# Altium integrated library Linear Technology Charge_Pump.IntLib: 599 symbols (part 9 of 29)
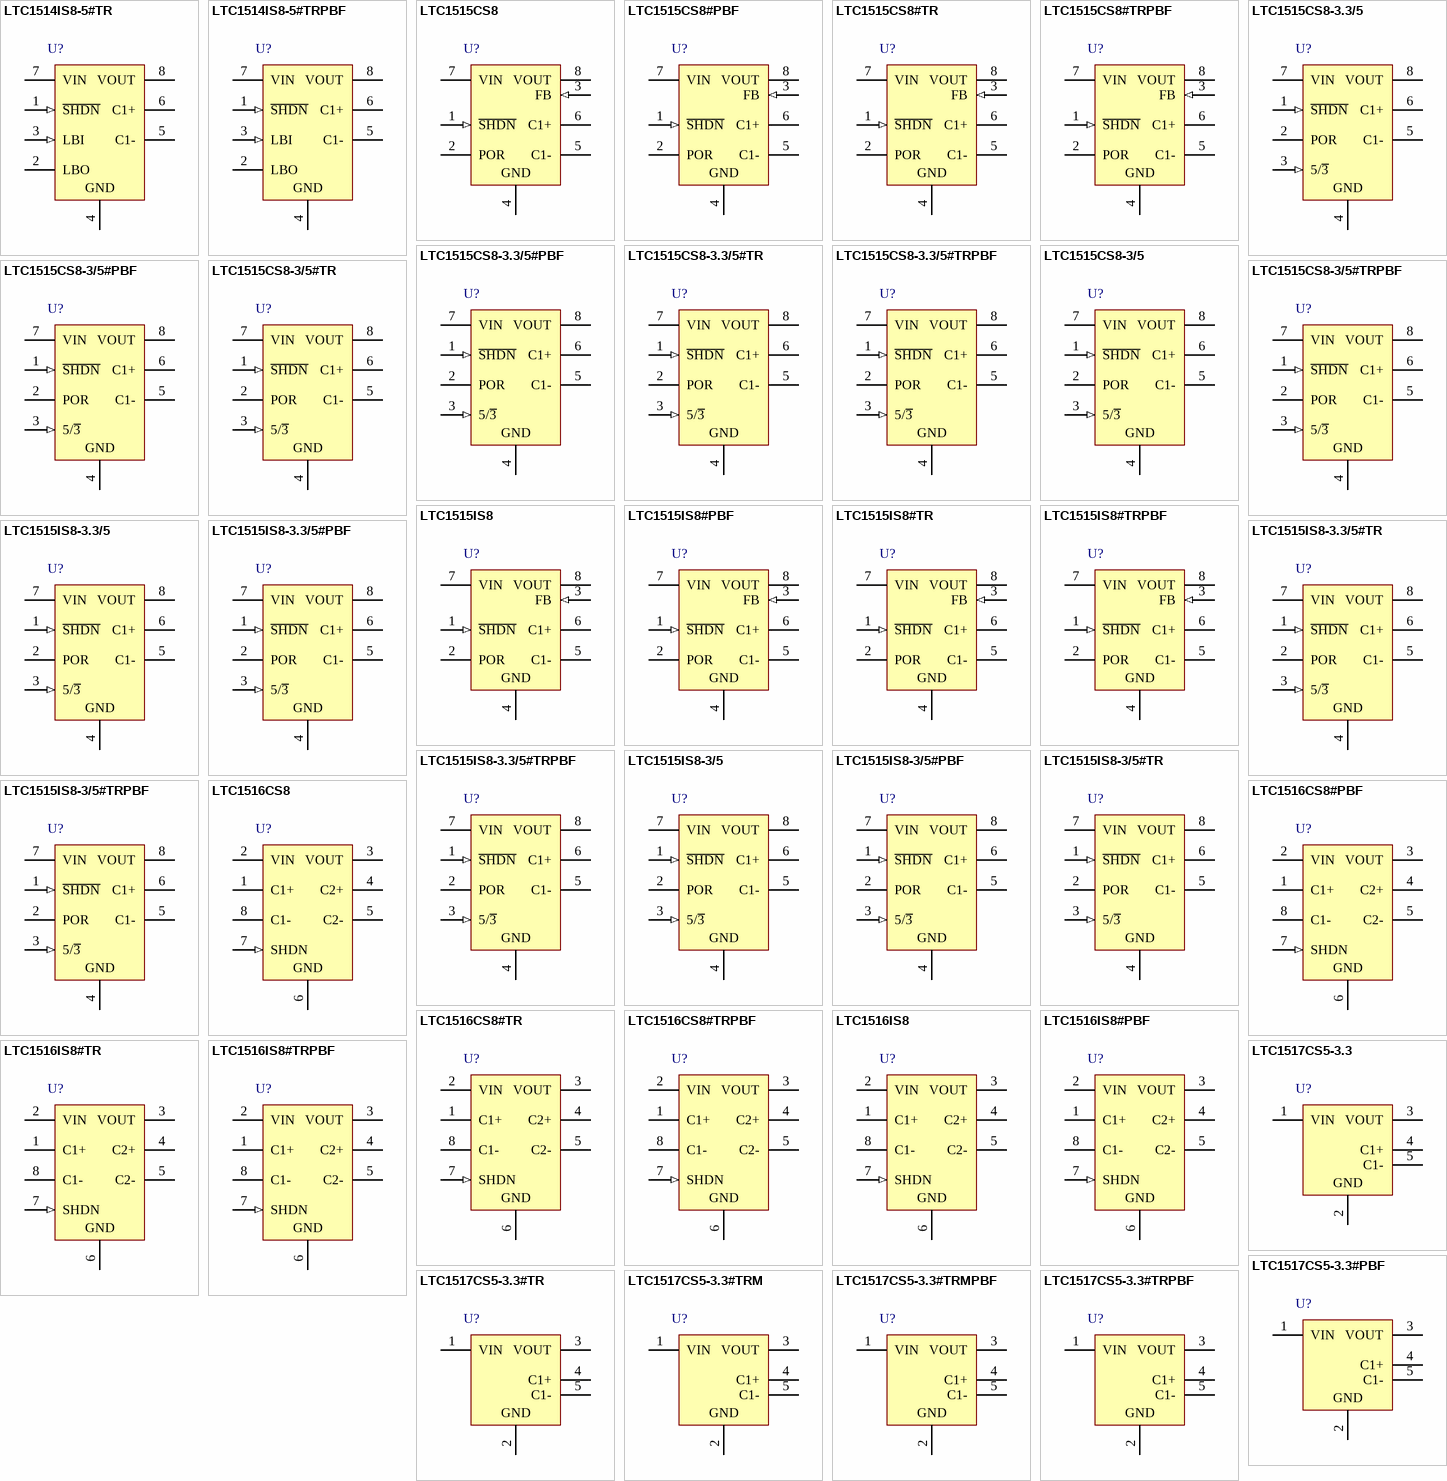
[diagram p24: symbols LTC1514IS8-5#TR to LTC1517CS5-3.3#TRPBF]

## LTC1515CS8-3/5
designator U?
Step-Up / Step-Down Switched Capacitor DC/DC Converter with Reset, 2 to 8 / 2.7 to 10 V Vin, 3 / 5 V Vout, 8-pin SOIC (S8-8), 0 to 70 degC; Manufacturer: Linear Technology; PartNumber: LTC1515CS8-3/5; Frequency(kHz): 650; Ishutdown(uA): 1; Isupply(mA): 0.06; Max Iout(mA): 50; Vin Max(V): 8, 10; Vin Min(V): 2, 2.7; Voutput: 3V, 5V; PackageVersion: Rev. G, 03/2012; PackageReference: S8-8; PackageDescription: 8-Pin Plastic Small Outline (Narrow .150 Inch), Body 4.9 x 3.9 mm, Pitch 1.27 mm; Supplier 1: Digi-Key; Supplier Part Number 1: LTC1515CS8-3/5-ND; RoHS: FALSE; Mounting Technology: Surface Mount; ComponentLink1Description: Manufacturer URL; ComponentLink1URL: http://www.linear.com/; ComponentLink2Description: Datasheet; ComponentLink2URL: http://cds.linear.com/docs/en/datasheet/1515sf.pdf; ComponentLink3Description: Package Specification; ComponentLink3URL: http://cds.linear.com/docs/en/packaging/05081610_G_SO8.pdf
footprint LT-S8-8_N (SOIC, 8-Leads, Body 5x4mm, Pitch 1.27mm, IPC Medium Density)
footprint LT-S8-8_L (SOIC, 8-Leads, Body 5x4mm, Pitch 1.27mm, IPC High Density)
footprint LT-S8-8_M (SOIC, 8-Leads, Body 5x4mm, Pitch 1.27mm, IPC Low Density)
pins: 1 ~{SHDN} (in) "Shutdown Input. A logic low on the S\H\D\N\ pin puts the part into shutdown mode. A logic high (VS\H\D\N\ >= 1.6V) enables the charge pump regulator. At high VIN voltages, the S\H\D\N\ pin may still be controlled with 3V (See Datasheet)", 2 POR (oc) "Open-Drain Power-On Reset Output. This pin will pull low upon initial power-up, during shutdown or until VOUT has been within 6.5% of its regulated value for more than 200ms typ.", 3 5/~{3} (in) "Output Voltage Select. A logic high on the 5/3\ pin will force VOUT to regulate to 5V. A logic low will force VOUT to 3V (LTC1515-3/5) or 3.3V (LTC1515- 3.3/5). As with the S\H\D\N\ pin, the 5/3\ pin may be driven with 3V (See Datasheet)", 4 GND (power) "Ground. Should be tied to a ground plane for best performance.", 5 C1- "Charge Pump Flying Capacitor, Negative Terminal.", 6 C1+ "Charge Pump Flying Capacitor, Positive Terminal.", 7 VIN (power) "Charge Pump Input Voltage. May be between 2V and 10V. VIN should be bypassed with a >=10uF low ESR capacitor as close as possible to the pin for best performance.", 8 VOUT (power) "Regulated Output Voltage. The output voltage is internally set to either 3V/5V, 3.3V/5V or adjustable using an external resistor divider (LTC1515). VOUT should be bypassed with a >= 10uF low ESR capacitor as close as (See Datasheet)"

## LTC1515CS8-3/5#PBF
designator U?
Step-Up / Step-Down Switched Capacitor DC/DC Converter with Reset, 2 to 8 / 2.7 to 10 V Vin, 3 / 5 V Vout, 8-pin SOIC (S8-8), 0 to 70 degC, Pb-Free; Manufacturer: Linear Technology; PartNumber: LTC1515CS8-3/5#PBF; Frequency(kHz): 650; Ishutdown(uA): 1; Isupply(mA): 0.06; Max Iout(mA): 50; Vin Max(V): 8, 10; Vin Min(V): 2, 2.7; Voutput: 3V, 5V; PackageVersion: Rev. G, 03/2012; PackageReference: S8-8; PackageDescription: 8-Pin Plastic Small Outline (Narrow .150 Inch), Body 4.9 x 3.9 mm, Pitch 1.27 mm; Supplier 1: Digi-Key; Supplier Part Number 1: LTC1515CS8-3/5#PBF-ND; RoHS: TRUE; Mounting Technology: Surface Mount; ComponentLink1Description: Manufacturer URL; ComponentLink1URL: http://www.linear.com/; ComponentLink2Description: Datasheet; ComponentLink2URL: http://cds.linear.com/docs/en/datasheet/1515sf.pdf; ComponentLink3Description: Package Specification; ComponentLink3URL: http://cds.linear.com/docs/en/packaging/05081610_G_SO8.pdf
footprint LT-S8-8_N (SOIC, 8-Leads, Body 5x4mm, Pitch 1.27mm, IPC Medium Density)
footprint LT-S8-8_L (SOIC, 8-Leads, Body 5x4mm, Pitch 1.27mm, IPC High Density)
footprint LT-S8-8_M (SOIC, 8-Leads, Body 5x4mm, Pitch 1.27mm, IPC Low Density)
pins: 1 ~{SHDN} (in) "Shutdown Input. A logic low on the S\H\D\N\ pin puts the part into shutdown mode. A logic high (VS\H\D\N\ >= 1.6V) enables the charge pump regulator. At high VIN voltages, the S\H\D\N\ pin may still be controlled with 3V (See Datasheet)", 2 POR (oc) "Open-Drain Power-On Reset Output. This pin will pull low upon initial power-up, during shutdown or until VOUT has been within 6.5% of its regulated value for more than 200ms typ.", 3 5/~{3} (in) "Output Voltage Select. A logic high on the 5/3\ pin will force VOUT to regulate to 5V. A logic low will force VOUT to 3V (LTC1515-3/5) or 3.3V (LTC1515- 3.3/5). As with the S\H\D\N\ pin, the 5/3\ pin may be driven with 3V (See Datasheet)", 4 GND (power) "Ground. Should be tied to a ground plane for best performance.", 5 C1- "Charge Pump Flying Capacitor, Negative Terminal.", 6 C1+ "Charge Pump Flying Capacitor, Positive Terminal.", 7 VIN (power) "Charge Pump Input Voltage. May be between 2V and 10V. VIN should be bypassed with a >=10uF low ESR capacitor as close as possible to the pin for best performance.", 8 VOUT (power) "Regulated Output Voltage. The output voltage is internally set to either 3V/5V, 3.3V/5V or adjustable using an external resistor divider (LTC1515). VOUT should be bypassed with a >= 10uF low ESR capacitor as close as (See Datasheet)"

## LTC1515CS8-3/5#TR
designator U?
Step-Up / Step-Down Switched Capacitor DC/DC Converter with Reset, 2 to 8 / 2.7 to 10 V Vin, 3 / 5 V Vout, 8-pin SOIC (S8-8), 0 to 70 degC, Tape and Reel; Manufacturer: Linear Technology; PartNumber: LTC1515CS8-3/5#TR; Frequency(kHz): 650; Ishutdown(uA): 1; Isupply(mA): 0.06; Max Iout(mA): 50; Vin Max(V): 8, 10; Vin Min(V): 2, 2.7; Voutput: 3V, 5V; PackageVersion: Rev. G, 03/2012; PackageReference: S8-8; PackageDescription: 8-Pin Plastic Small Outline (Narrow .150 Inch), Body 4.9 x 3.9 mm, Pitch 1.27 mm; Supplier 1: Digi-Key; Supplier Part Number 1: LTC1515CS8-3/5#TR-ND; Packing: Tape and Reel; RoHS: FALSE; Mounting Technology: Surface Mount; ComponentLink1Description: Manufacturer URL; ComponentLink1URL: http://www.linear.com/; ComponentLink2Description: Datasheet; ComponentLink2URL: http://cds.linear.com/docs/en/datasheet/1515sf.pdf; ComponentLink3Description: Package Specification; ComponentLink3URL: http://cds.linear.com/docs/en/packaging/05081610_G_SO8.pdf
footprint LT-S8-8_N (SOIC, 8-Leads, Body 5x4mm, Pitch 1.27mm, IPC Medium Density)
footprint LT-S8-8_L (SOIC, 8-Leads, Body 5x4mm, Pitch 1.27mm, IPC High Density)
footprint LT-S8-8_M (SOIC, 8-Leads, Body 5x4mm, Pitch 1.27mm, IPC Low Density)
pins: 1 ~{SHDN} (in) "Shutdown Input. A logic low on the S\H\D\N\ pin puts the part into shutdown mode. A logic high (VS\H\D\N\ >= 1.6V) enables the charge pump regulator. At high VIN voltages, the S\H\D\N\ pin may still be controlled with 3V (See Datasheet)", 2 POR (oc) "Open-Drain Power-On Reset Output. This pin will pull low upon initial power-up, during shutdown or until VOUT has been within 6.5% of its regulated value for more than 200ms typ.", 3 5/~{3} (in) "Output Voltage Select. A logic high on the 5/3\ pin will force VOUT to regulate to 5V. A logic low will force VOUT to 3V (LTC1515-3/5) or 3.3V (LTC1515- 3.3/5). As with the S\H\D\N\ pin, the 5/3\ pin may be driven with 3V (See Datasheet)", 4 GND (power) "Ground. Should be tied to a ground plane for best performance.", 5 C1- "Charge Pump Flying Capacitor, Negative Terminal.", 6 C1+ "Charge Pump Flying Capacitor, Positive Terminal.", 7 VIN (power) "Charge Pump Input Voltage. May be between 2V and 10V. VIN should be bypassed with a >=10uF low ESR capacitor as close as possible to the pin for best performance.", 8 VOUT (power) "Regulated Output Voltage. The output voltage is internally set to either 3V/5V, 3.3V/5V or adjustable using an external resistor divider (LTC1515). VOUT should be bypassed with a >= 10uF low ESR capacitor as close as (See Datasheet)"

## LTC1515CS8-3/5#TRPBF
designator U?
Step-Up / Step-Down Switched Capacitor DC/DC Converter with Reset, 2 to 8 / 2.7 to 10 V Vin, 3 / 5 V Vout, 8-pin SOIC (S8-8), 0 to 70 degC, Pb-Free, Tape and Reel; Manufacturer: Linear Technology; PartNumber: LTC1515CS8-3/5#TRPBF; Frequency(kHz): 650; Ishutdown(uA): 1; Isupply(mA): 0.06; Max Iout(mA): 50; Vin Max(V): 8, 10; Vin Min(V): 2, 2.7; Voutput: 3V, 5V; PackageVersion: Rev. G, 03/2012; PackageReference: S8-8; PackageDescription: 8-Pin Plastic Small Outline (Narrow .150 Inch), Body 4.9 x 3.9 mm, Pitch 1.27 mm; Supplier 1: Digi-Key; Supplier Part Number 1: LTC1515CS8-3/5#TRPBF-ND; Packing: Tape and Reel; RoHS: TRUE; Mounting Technology: Surface Mount; ComponentLink1Description: Manufacturer URL; ComponentLink1URL: http://www.linear.com/; ComponentLink2Description: Datasheet; ComponentLink2URL: http://cds.linear.com/docs/en/datasheet/1515sf.pdf; ComponentLink3Description: Package Specification; ComponentLink3URL: http://cds.linear.com/docs/en/packaging/05081610_G_SO8.pdf
footprint LT-S8-8_N (SOIC, 8-Leads, Body 5x4mm, Pitch 1.27mm, IPC Medium Density)
footprint LT-S8-8_L (SOIC, 8-Leads, Body 5x4mm, Pitch 1.27mm, IPC High Density)
footprint LT-S8-8_M (SOIC, 8-Leads, Body 5x4mm, Pitch 1.27mm, IPC Low Density)
pins: 1 ~{SHDN} (in) "Shutdown Input. A logic low on the S\H\D\N\ pin puts the part into shutdown mode. A logic high (VS\H\D\N\ >= 1.6V) enables the charge pump regulator. At high VIN voltages, the S\H\D\N\ pin may still be controlled with 3V (See Datasheet)", 2 POR (oc) "Open-Drain Power-On Reset Output. This pin will pull low upon initial power-up, during shutdown or until VOUT has been within 6.5% of its regulated value for more than 200ms typ.", 3 5/~{3} (in) "Output Voltage Select. A logic high on the 5/3\ pin will force VOUT to regulate to 5V. A logic low will force VOUT to 3V (LTC1515-3/5) or 3.3V (LTC1515- 3.3/5). As with the S\H\D\N\ pin, the 5/3\ pin may be driven with 3V (See Datasheet)", 4 GND (power) "Ground. Should be tied to a ground plane for best performance.", 5 C1- "Charge Pump Flying Capacitor, Negative Terminal.", 6 C1+ "Charge Pump Flying Capacitor, Positive Terminal.", 7 VIN (power) "Charge Pump Input Voltage. May be between 2V and 10V. VIN should be bypassed with a >=10uF low ESR capacitor as close as possible to the pin for best performance.", 8 VOUT (power) "Regulated Output Voltage. The output voltage is internally set to either 3V/5V, 3.3V/5V or adjustable using an external resistor divider (LTC1515). VOUT should be bypassed with a >= 10uF low ESR capacitor as close as (See Datasheet)"

## LTC1515IS8
designator U?
Step-Up / Step-Down Switched Capacitor DC/DC Converter with Reset, 2 to 10 V Vin, Adjustable Vout, 8-pin SOIC (S8-8), -40 to 85 degC; Manufacturer: Linear Technology; PartNumber: LTC1515IS8; Frequency(kHz): 650; Ishutdown(uA): 1; Isupply(mA): 0.06; Max Iout(mA): 50; Vin Max(V): 10; Vin Min(V): 2; Voutput: Adj; PackageVersion: Rev. G, 03/2012; PackageReference: S8-8; PackageDescription: 8-Pin Plastic Small Outline (Narrow .150 Inch), Body 4.9 x 3.9 mm, Pitch 1.27 mm; Supplier 1: Digi-Key; Supplier Part Number 1: LTC1515IS8-ND; RoHS: FALSE; Mounting Technology: Surface Mount; ComponentLink1Description: Manufacturer URL; ComponentLink1URL: http://www.linear.com/; ComponentLink2Description: Datasheet; ComponentLink2URL: http://cds.linear.com/docs/en/datasheet/1515sf.pdf; ComponentLink3Description: Package Specification; ComponentLink3URL: http://cds.linear.com/docs/en/packaging/05081610_G_SO8.pdf
footprint LT-S8-8_N (SOIC, 8-Leads, Body 5x4mm, Pitch 1.27mm, IPC Medium Density)
footprint LT-S8-8_L (SOIC, 8-Leads, Body 5x4mm, Pitch 1.27mm, IPC High Density)
footprint LT-S8-8_M (SOIC, 8-Leads, Body 5x4mm, Pitch 1.27mm, IPC Low Density)
pins: 1 ~{SHDN} (in) "Shutdown Input. A logic low on the S\H\D\N\ pin puts the part into shutdown mode. A logic high (VS\H\D\N\ >= 1.6V) enables the charge pump regulator. At high VIN voltages, the S\H\D\N\ pin may still be controlled with 3V (See Datasheet)", 2 POR (oc) "Open-Drain Power-On Reset Output. This pin will pull low upon initial power-up, during shutdown or until VOUT has been within 6.5% of its regulated value for more than 200ms typ.", 3 FB (in) "Feedback Input. The voltage on this pin is compared to the internal reference voltage (1.232V) to keep the output in regulation. An external resistor divider is required between VOUT and FB to adjust the output voltage. (See Datasheet)", 4 GND (power) "Ground. Should be tied to a ground plane for best performance.", 5 C1- "Charge Pump Flying Capacitor, Negative Terminal.", 6 C1+ "Charge Pump Flying Capacitor, Positive Terminal.", 7 VIN (power) "Charge Pump Input Voltage. May be between 2V and 10V. VIN should be bypassed with a >=10uF low ESR capacitor as close as possible to the pin for best performance.", 8 VOUT (power) "Regulated Output Voltage. The output voltage is internally set to either 3V/5V, 3.3V/5V or adjustable using an external resistor divider (LTC1515). VOUT should be bypassed with a >= 10uF low ESR capacitor as close as (See Datasheet)"

## LTC1515IS8#PBF
designator U?
Step-Up / Step-Down Switched Capacitor DC/DC Converter with Reset, 2 to 10 V Vin, Adjustable Vout, 8-pin SOIC (S8-8), -40 to 85 degC, Pb-Free; Manufacturer: Linear Technology; PartNumber: LTC1515IS8#PBF; Frequency(kHz): 650; Ishutdown(uA): 1; Isupply(mA): 0.06; Max Iout(mA): 50; Vin Max(V): 10; Vin Min(V): 2; Voutput: Adj; PackageVersion: Rev. G, 03/2012; PackageReference: S8-8; PackageDescription: 8-Pin Plastic Small Outline (Narrow .150 Inch), Body 4.9 x 3.9 mm, Pitch 1.27 mm; Supplier 1: Digi-Key; Supplier Part Number 1: LTC1515IS8#PBF-ND; RoHS: TRUE; Mounting Technology: Surface Mount; ComponentLink1Description: Manufacturer URL; ComponentLink1URL: http://www.linear.com/; ComponentLink2Description: Datasheet; ComponentLink2URL: http://cds.linear.com/docs/en/datasheet/1515sf.pdf; ComponentLink3Description: Package Specification; ComponentLink3URL: http://cds.linear.com/docs/en/packaging/05081610_G_SO8.pdf
footprint LT-S8-8_N (SOIC, 8-Leads, Body 5x4mm, Pitch 1.27mm, IPC Medium Density)
footprint LT-S8-8_L (SOIC, 8-Leads, Body 5x4mm, Pitch 1.27mm, IPC High Density)
footprint LT-S8-8_M (SOIC, 8-Leads, Body 5x4mm, Pitch 1.27mm, IPC Low Density)
pins: 1 ~{SHDN} (in) "Shutdown Input. A logic low on the S\H\D\N\ pin puts the part into shutdown mode. A logic high (VS\H\D\N\ >= 1.6V) enables the charge pump regulator. At high VIN voltages, the S\H\D\N\ pin may still be controlled with 3V (See Datasheet)", 2 POR (oc) "Open-Drain Power-On Reset Output. This pin will pull low upon initial power-up, during shutdown or until VOUT has been within 6.5% of its regulated value for more than 200ms typ.", 3 FB (in) "Feedback Input. The voltage on this pin is compared to the internal reference voltage (1.232V) to keep the output in regulation. An external resistor divider is required between VOUT and FB to adjust the output voltage. (See Datasheet)", 4 GND (power) "Ground. Should be tied to a ground plane for best performance.", 5 C1- "Charge Pump Flying Capacitor, Negative Terminal.", 6 C1+ "Charge Pump Flying Capacitor, Positive Terminal.", 7 VIN (power) "Charge Pump Input Voltage. May be between 2V and 10V. VIN should be bypassed with a >=10uF low ESR capacitor as close as possible to the pin for best performance.", 8 VOUT (power) "Regulated Output Voltage. The output voltage is internally set to either 3V/5V, 3.3V/5V or adjustable using an external resistor divider (LTC1515). VOUT should be bypassed with a >= 10uF low ESR capacitor as close as (See Datasheet)"

## LTC1515IS8#TR
designator U?
Step-Up / Step-Down Switched Capacitor DC/DC Converter with Reset, 2 to 10 V Vin, Adjustable Vout, 8-pin SOIC (S8-8), -40 to 85 degC, Tape and Reel; Manufacturer: Linear Technology; PartNumber: LTC1515IS8#TR; Frequency(kHz): 650; Ishutdown(uA): 1; Isupply(mA): 0.06; Max Iout(mA): 50; Vin Max(V): 10; Vin Min(V): 2; Voutput: Adj; PackageVersion: Rev. G, 03/2012; PackageReference: S8-8; PackageDescription: 8-Pin Plastic Small Outline (Narrow .150 Inch), Body 4.9 x 3.9 mm, Pitch 1.27 mm; Supplier 1: Digi-Key; Supplier Part Number 1: LTC1515IS8#TR-ND; Packing: Tape and Reel; RoHS: FALSE; Mounting Technology: Surface Mount; ComponentLink1Description: Manufacturer URL; ComponentLink1URL: http://www.linear.com/; ComponentLink2Description: Datasheet; ComponentLink2URL: http://cds.linear.com/docs/en/datasheet/1515sf.pdf; ComponentLink3Description: Package Specification; ComponentLink3URL: http://cds.linear.com/docs/en/packaging/05081610_G_SO8.pdf
footprint LT-S8-8_N (SOIC, 8-Leads, Body 5x4mm, Pitch 1.27mm, IPC Medium Density)
footprint LT-S8-8_L (SOIC, 8-Leads, Body 5x4mm, Pitch 1.27mm, IPC High Density)
footprint LT-S8-8_M (SOIC, 8-Leads, Body 5x4mm, Pitch 1.27mm, IPC Low Density)
pins: 1 ~{SHDN} (in) "Shutdown Input. A logic low on the S\H\D\N\ pin puts the part into shutdown mode. A logic high (VS\H\D\N\ >= 1.6V) enables the charge pump regulator. At high VIN voltages, the S\H\D\N\ pin may still be controlled with 3V (See Datasheet)", 2 POR (oc) "Open-Drain Power-On Reset Output. This pin will pull low upon initial power-up, during shutdown or until VOUT has been within 6.5% of its regulated value for more than 200ms typ.", 3 FB (in) "Feedback Input. The voltage on this pin is compared to the internal reference voltage (1.232V) to keep the output in regulation. An external resistor divider is required between VOUT and FB to adjust the output voltage. (See Datasheet)", 4 GND (power) "Ground. Should be tied to a ground plane for best performance.", 5 C1- "Charge Pump Flying Capacitor, Negative Terminal.", 6 C1+ "Charge Pump Flying Capacitor, Positive Terminal.", 7 VIN (power) "Charge Pump Input Voltage. May be between 2V and 10V. VIN should be bypassed with a >=10uF low ESR capacitor as close as possible to the pin for best performance.", 8 VOUT (power) "Regulated Output Voltage. The output voltage is internally set to either 3V/5V, 3.3V/5V or adjustable using an external resistor divider (LTC1515). VOUT should be bypassed with a >= 10uF low ESR capacitor as close as (See Datasheet)"

## LTC1515IS8#TRPBF
designator U?
Step-Up / Step-Down Switched Capacitor DC/DC Converter with Reset, 2 to 10 V Vin, Adjustable Vout, 8-pin SOIC (S8-8), -40 to 85 degC, Pb-Free, Tape and Reel; Manufacturer: Linear Technology; PartNumber: LTC1515IS8#TRPBF; Frequency(kHz): 650; Ishutdown(uA): 1; Isupply(mA): 0.06; Max Iout(mA): 50; Vin Max(V): 10; Vin Min(V): 2; Voutput: Adj; PackageVersion: Rev. G, 03/2012; PackageReference: S8-8; PackageDescription: 8-Pin Plastic Small Outline (Narrow .150 Inch), Body 4.9 x 3.9 mm, Pitch 1.27 mm; Supplier 1: Digi-Key; Supplier Part Number 1: LTC1515IS8#TRPBF-ND; Packing: Tape and Reel; RoHS: TRUE; Mounting Technology: Surface Mount; ComponentLink1Description: Manufacturer URL; ComponentLink1URL: http://www.linear.com/; ComponentLink2Description: Datasheet; ComponentLink2URL: http://cds.linear.com/docs/en/datasheet/1515sf.pdf; ComponentLink3Description: Package Specification; ComponentLink3URL: http://cds.linear.com/docs/en/packaging/05081610_G_SO8.pdf
footprint LT-S8-8_N (SOIC, 8-Leads, Body 5x4mm, Pitch 1.27mm, IPC Medium Density)
footprint LT-S8-8_L (SOIC, 8-Leads, Body 5x4mm, Pitch 1.27mm, IPC High Density)
footprint LT-S8-8_M (SOIC, 8-Leads, Body 5x4mm, Pitch 1.27mm, IPC Low Density)
pins: 1 ~{SHDN} (in) "Shutdown Input. A logic low on the S\H\D\N\ pin puts the part into shutdown mode. A logic high (VS\H\D\N\ >= 1.6V) enables the charge pump regulator. At high VIN voltages, the S\H\D\N\ pin may still be controlled with 3V (See Datasheet)", 2 POR (oc) "Open-Drain Power-On Reset Output. This pin will pull low upon initial power-up, during shutdown or until VOUT has been within 6.5% of its regulated value for more than 200ms typ.", 3 FB (in) "Feedback Input. The voltage on this pin is compared to the internal reference voltage (1.232V) to keep the output in regulation. An external resistor divider is required between VOUT and FB to adjust the output voltage. (See Datasheet)", 4 GND (power) "Ground. Should be tied to a ground plane for best performance.", 5 C1- "Charge Pump Flying Capacitor, Negative Terminal.", 6 C1+ "Charge Pump Flying Capacitor, Positive Terminal.", 7 VIN (power) "Charge Pump Input Voltage. May be between 2V and 10V. VIN should be bypassed with a >=10uF low ESR capacitor as close as possible to the pin for best performance.", 8 VOUT (power) "Regulated Output Voltage. The output voltage is internally set to either 3V/5V, 3.3V/5V or adjustable using an external resistor divider (LTC1515). VOUT should be bypassed with a >= 10uF low ESR capacitor as close as (See Datasheet)"

## LTC1515IS8-3.3/5
designator U?
Step-Up / Step-Down Switched Capacitor DC/DC Converter with Reset, 2 to 8 / 2.7 to 10 V Vin, 3.3 / 5 V Vout, 8-pin SOIC (S8-8), -40 to 85 degC; Manufacturer: Linear Technology; PartNumber: LTC1515IS8-3.3/5; Frequency(kHz): 650; Ishutdown(uA): 1; Isupply(mA): 0.06; Max Iout(mA): 50; Vin Max(V): 8, 10; Vin Min(V): 2, 2.7; Voutput: 3.3V, 5V; PackageVersion: Rev. G, 03/2012; PackageReference: S8-8; PackageDescription: 8-Pin Plastic Small Outline (Narrow .150 Inch), Body 4.9 x 3.9 mm, Pitch 1.27 mm; Supplier 1: Digi-Key; Supplier Part Number 1: LTC1515IS8-3.3/5-ND; RoHS: FALSE; Mounting Technology: Surface Mount; ComponentLink1Description: Manufacturer URL; ComponentLink1URL: http://www.linear.com/; ComponentLink2Description: Datasheet; ComponentLink2URL: http://cds.linear.com/docs/en/datasheet/1515sf.pdf; ComponentLink3Description: Package Specification; ComponentLink3URL: http://cds.linear.com/docs/en/packaging/05081610_G_SO8.pdf
footprint LT-S8-8_N (SOIC, 8-Leads, Body 5x4mm, Pitch 1.27mm, IPC Medium Density)
footprint LT-S8-8_L (SOIC, 8-Leads, Body 5x4mm, Pitch 1.27mm, IPC High Density)
footprint LT-S8-8_M (SOIC, 8-Leads, Body 5x4mm, Pitch 1.27mm, IPC Low Density)
pins: 1 ~{SHDN} (in) "Shutdown Input. A logic low on the S\H\D\N\ pin puts the part into shutdown mode. A logic high (VS\H\D\N\ >= 1.6V) enables the charge pump regulator. At high VIN voltages, the S\H\D\N\ pin may still be controlled with 3V (See Datasheet)", 2 POR (oc) "Open-Drain Power-On Reset Output. This pin will pull low upon initial power-up, during shutdown or until VOUT has been within 6.5% of its regulated value for more than 200ms typ.", 3 5/~{3} (in) "Output Voltage Select. A logic high on the 5/3\ pin will force VOUT to regulate to 5V. A logic low will force VOUT to 3V (LTC1515-3/5) or 3.3V (LTC1515- 3.3/5). As with the S\H\D\N\ pin, the 5/3\ pin may be driven with 3V (See Datasheet)", 4 GND (power) "Ground. Should be tied to a ground plane for best performance.", 5 C1- "Charge Pump Flying Capacitor, Negative Terminal.", 6 C1+ "Charge Pump Flying Capacitor, Positive Terminal.", 7 VIN (power) "Charge Pump Input Voltage. May be between 2V and 10V. VIN should be bypassed with a >=10uF low ESR capacitor as close as possible to the pin for best performance.", 8 VOUT (power) "Regulated Output Voltage. The output voltage is internally set to either 3V/5V, 3.3V/5V or adjustable using an external resistor divider (LTC1515). VOUT should be bypassed with a >= 10uF low ESR capacitor as close as (See Datasheet)"

## LTC1515IS8-3.3/5#PBF
designator U?
Step-Up / Step-Down Switched Capacitor DC/DC Converter with Reset, 2 to 8 / 2.7 to 10 V Vin, 3.3 / 5 V Vout, 8-pin SOIC (S8-8), -40 to 85 degC, Pb-Free; Manufacturer: Linear Technology; PartNumber: LTC1515IS8-3.3/5#PBF; Frequency(kHz): 650; Ishutdown(uA): 1; Isupply(mA): 0.06; Max Iout(mA): 50; Vin Max(V): 8, 10; Vin Min(V): 2, 2.7; Voutput: 3.3V, 5V; PackageVersion: Rev. G, 03/2012; PackageReference: S8-8; PackageDescription: 8-Pin Plastic Small Outline (Narrow .150 Inch), Body 4.9 x 3.9 mm, Pitch 1.27 mm; Supplier 1: Digi-Key; Supplier Part Number 1: LTC1515IS8-3.3/5#PBF-ND; Supplier 2: Newark; Supplier Part Number 2: 56M1726; RoHS: TRUE; Mounting Technology: Surface Mount; ComponentLink1Description: Manufacturer URL; ComponentLink1URL: http://www.linear.com/; ComponentLink2Description: Datasheet; ComponentLink2URL: http://cds.linear.com/docs/en/datasheet/1515sf.pdf; ComponentLink3Description: Package Specification; ComponentLink3URL: http://cds.linear.com/docs/en/packaging/05081610_G_SO8.pdf
footprint LT-S8-8_N (SOIC, 8-Leads, Body 5x4mm, Pitch 1.27mm, IPC Medium Density)
footprint LT-S8-8_L (SOIC, 8-Leads, Body 5x4mm, Pitch 1.27mm, IPC High Density)
footprint LT-S8-8_M (SOIC, 8-Leads, Body 5x4mm, Pitch 1.27mm, IPC Low Density)
pins: 1 ~{SHDN} (in) "Shutdown Input. A logic low on the S\H\D\N\ pin puts the part into shutdown mode. A logic high (VS\H\D\N\ >= 1.6V) enables the charge pump regulator. At high VIN voltages, the S\H\D\N\ pin may still be controlled with 3V (See Datasheet)", 2 POR (oc) "Open-Drain Power-On Reset Output. This pin will pull low upon initial power-up, during shutdown or until VOUT has been within 6.5% of its regulated value for more than 200ms typ.", 3 5/~{3} (in) "Output Voltage Select. A logic high on the 5/3\ pin will force VOUT to regulate to 5V. A logic low will force VOUT to 3V (LTC1515-3/5) or 3.3V (LTC1515- 3.3/5). As with the S\H\D\N\ pin, the 5/3\ pin may be driven with 3V (See Datasheet)", 4 GND (power) "Ground. Should be tied to a ground plane for best performance.", 5 C1- "Charge Pump Flying Capacitor, Negative Terminal.", 6 C1+ "Charge Pump Flying Capacitor, Positive Terminal.", 7 VIN (power) "Charge Pump Input Voltage. May be between 2V and 10V. VIN should be bypassed with a >=10uF low ESR capacitor as close as possible to the pin for best performance.", 8 VOUT (power) "Regulated Output Voltage. The output voltage is internally set to either 3V/5V, 3.3V/5V or adjustable using an external resistor divider (LTC1515). VOUT should be bypassed with a >= 10uF low ESR capacitor as close as (See Datasheet)"

## LTC1515IS8-3.3/5#TR
designator U?
Step-Up / Step-Down Switched Capacitor DC/DC Converter with Reset, 2 to 8 / 2.7 to 10 V Vin, 3.3 / 5 V Vout, 8-pin SOIC (S8-8), -40 to 85 degC, Tape and Reel; Manufacturer: Linear Technology; PartNumber: LTC1515IS8-3.3/5#TR; Frequency(kHz): 650; Ishutdown(uA): 1; Isupply(mA): 0.06; Max Iout(mA): 50; Vin Max(V): 8, 10; Vin Min(V): 2, 2.7; Voutput: 3.3V, 5V; PackageVersion: Rev. G, 03/2012; PackageReference: S8-8; PackageDescription: 8-Pin Plastic Small Outline (Narrow .150 Inch), Body 4.9 x 3.9 mm, Pitch 1.27 mm; Supplier 1: Digi-Key; Supplier Part Number 1: LTC1515IS8-3.35TR-ND; Packing: Tape and Reel; RoHS: FALSE; Mounting Technology: Surface Mount; ComponentLink1Description: Manufacturer URL; ComponentLink1URL: http://www.linear.com/; ComponentLink2Description: Datasheet; ComponentLink2URL: http://cds.linear.com/docs/en/datasheet/1515sf.pdf; ComponentLink3Description: Package Specification; ComponentLink3URL: http://cds.linear.com/docs/en/packaging/05081610_G_SO8.pdf
footprint LT-S8-8_N (SOIC, 8-Leads, Body 5x4mm, Pitch 1.27mm, IPC Medium Density)
footprint LT-S8-8_L (SOIC, 8-Leads, Body 5x4mm, Pitch 1.27mm, IPC High Density)
footprint LT-S8-8_M (SOIC, 8-Leads, Body 5x4mm, Pitch 1.27mm, IPC Low Density)
pins: 1 ~{SHDN} (in) "Shutdown Input. A logic low on the S\H\D\N\ pin puts the part into shutdown mode. A logic high (VS\H\D\N\ >= 1.6V) enables the charge pump regulator. At high VIN voltages, the S\H\D\N\ pin may still be controlled with 3V (See Datasheet)", 2 POR (oc) "Open-Drain Power-On Reset Output. This pin will pull low upon initial power-up, during shutdown or until VOUT has been within 6.5% of its regulated value for more than 200ms typ.", 3 5/~{3} (in) "Output Voltage Select. A logic high on the 5/3\ pin will force VOUT to regulate to 5V. A logic low will force VOUT to 3V (LTC1515-3/5) or 3.3V (LTC1515- 3.3/5). As with the S\H\D\N\ pin, the 5/3\ pin may be driven with 3V (See Datasheet)", 4 GND (power) "Ground. Should be tied to a ground plane for best performance.", 5 C1- "Charge Pump Flying Capacitor, Negative Terminal.", 6 C1+ "Charge Pump Flying Capacitor, Positive Terminal.", 7 VIN (power) "Charge Pump Input Voltage. May be between 2V and 10V. VIN should be bypassed with a >=10uF low ESR capacitor as close as possible to the pin for best performance.", 8 VOUT (power) "Regulated Output Voltage. The output voltage is internally set to either 3V/5V, 3.3V/5V or adjustable using an external resistor divider (LTC1515). VOUT should be bypassed with a >= 10uF low ESR capacitor as close as (See Datasheet)"

## LTC1515IS8-3.3/5#TRPBF
designator U?
Step-Up / Step-Down Switched Capacitor DC/DC Converter with Reset, 2 to 8 / 2.7 to 10 V Vin, 3.3 / 5 V Vout, 8-pin SOIC (S8-8), -40 to 85 degC, Pb-Free, Tape and Reel; Manufacturer: Linear Technology; PartNumber: LTC1515IS8-3.3/5#TRPBF; Frequency(kHz): 650; Ishutdown(uA): 1; Isupply(mA): 0.06; Max Iout(mA): 50; Vin Max(V): 8, 10; Vin Min(V): 2, 2.7; Voutput: 3.3V, 5V; PackageVersion: Rev. G, 03/2012; PackageReference: S8-8; PackageDescription: 8-Pin Plastic Small Outline (Narrow .150 Inch), Body 4.9 x 3.9 mm, Pitch 1.27 mm; Supplier 1: Digi-Key; Supplier Part Number 1: LTC1515IS8-3.3/5#TRPBF-ND; Packing: Tape and Reel; RoHS: TRUE; Mounting Technology: Surface Mount; ComponentLink1Description: Manufacturer URL; ComponentLink1URL: http://www.linear.com/; ComponentLink2Description: Datasheet; ComponentLink2URL: http://cds.linear.com/docs/en/datasheet/1515sf.pdf; ComponentLink3Description: Package Specification; ComponentLink3URL: http://cds.linear.com/docs/en/packaging/05081610_G_SO8.pdf
footprint LT-S8-8_N (SOIC, 8-Leads, Body 5x4mm, Pitch 1.27mm, IPC Medium Density)
footprint LT-S8-8_L (SOIC, 8-Leads, Body 5x4mm, Pitch 1.27mm, IPC High Density)
footprint LT-S8-8_M (SOIC, 8-Leads, Body 5x4mm, Pitch 1.27mm, IPC Low Density)
pins: 1 ~{SHDN} (in) "Shutdown Input. A logic low on the S\H\D\N\ pin puts the part into shutdown mode. A logic high (VS\H\D\N\ >= 1.6V) enables the charge pump regulator. At high VIN voltages, the S\H\D\N\ pin may still be controlled with 3V (See Datasheet)", 2 POR (oc) "Open-Drain Power-On Reset Output. This pin will pull low upon initial power-up, during shutdown or until VOUT has been within 6.5% of its regulated value for more than 200ms typ.", 3 5/~{3} (in) "Output Voltage Select. A logic high on the 5/3\ pin will force VOUT to regulate to 5V. A logic low will force VOUT to 3V (LTC1515-3/5) or 3.3V (LTC1515- 3.3/5). As with the S\H\D\N\ pin, the 5/3\ pin may be driven with 3V (See Datasheet)", 4 GND (power) "Ground. Should be tied to a ground plane for best performance.", 5 C1- "Charge Pump Flying Capacitor, Negative Terminal.", 6 C1+ "Charge Pump Flying Capacitor, Positive Terminal.", 7 VIN (power) "Charge Pump Input Voltage. May be between 2V and 10V. VIN should be bypassed with a >=10uF low ESR capacitor as close as possible to the pin for best performance.", 8 VOUT (power) "Regulated Output Voltage. The output voltage is internally set to either 3V/5V, 3.3V/5V or adjustable using an external resistor divider (LTC1515). VOUT should be bypassed with a >= 10uF low ESR capacitor as close as (See Datasheet)"

## LTC1515IS8-3/5
designator U?
Step-Up / Step-Down Switched Capacitor DC/DC Converter with Reset, 2 to 8 / 2.7 to 10 V Vin, 3 / 5 V Vout, 8-pin SOIC (S8-8), -40 to 85 degC; Manufacturer: Linear Technology; PartNumber: LTC1515IS8-3/5; Frequency(kHz): 650; Ishutdown(uA): 1; Isupply(mA): 0.06; Max Iout(mA): 50; Vin Max(V): 8, 10; Vin Min(V): 2, 2.7; Voutput: 3V, 5V; PackageVersion: Rev. G, 03/2012; PackageReference: S8-8; PackageDescription: 8-Pin Plastic Small Outline (Narrow .150 Inch), Body 4.9 x 3.9 mm, Pitch 1.27 mm; Supplier 1: Digi-Key; Supplier Part Number 1: LTC1515IS8-3/5-ND; RoHS: FALSE; Mounting Technology: Surface Mount; ComponentLink1Description: Manufacturer URL; ComponentLink1URL: http://www.linear.com/; ComponentLink2Description: Datasheet; ComponentLink2URL: http://cds.linear.com/docs/en/datasheet/1515sf.pdf; ComponentLink3Description: Package Specification; ComponentLink3URL: http://cds.linear.com/docs/en/packaging/05081610_G_SO8.pdf
footprint LT-S8-8_N (SOIC, 8-Leads, Body 5x4mm, Pitch 1.27mm, IPC Medium Density)
footprint LT-S8-8_L (SOIC, 8-Leads, Body 5x4mm, Pitch 1.27mm, IPC High Density)
footprint LT-S8-8_M (SOIC, 8-Leads, Body 5x4mm, Pitch 1.27mm, IPC Low Density)
pins: 1 ~{SHDN} (in) "Shutdown Input. A logic low on the S\H\D\N\ pin puts the part into shutdown mode. A logic high (VS\H\D\N\ >= 1.6V) enables the charge pump regulator. At high VIN voltages, the S\H\D\N\ pin may still be controlled with 3V (See Datasheet)", 2 POR (oc) "Open-Drain Power-On Reset Output. This pin will pull low upon initial power-up, during shutdown or until VOUT has been within 6.5% of its regulated value for more than 200ms typ.", 3 5/~{3} (in) "Output Voltage Select. A logic high on the 5/3\ pin will force VOUT to regulate to 5V. A logic low will force VOUT to 3V (LTC1515-3/5) or 3.3V (LTC1515- 3.3/5). As with the S\H\D\N\ pin, the 5/3\ pin may be driven with 3V (See Datasheet)", 4 GND (power) "Ground. Should be tied to a ground plane for best performance.", 5 C1- "Charge Pump Flying Capacitor, Negative Terminal.", 6 C1+ "Charge Pump Flying Capacitor, Positive Terminal.", 7 VIN (power) "Charge Pump Input Voltage. May be between 2V and 10V. VIN should be bypassed with a >=10uF low ESR capacitor as close as possible to the pin for best performance.", 8 VOUT (power) "Regulated Output Voltage. The output voltage is internally set to either 3V/5V, 3.3V/5V or adjustable using an external resistor divider (LTC1515). VOUT should be bypassed with a >= 10uF low ESR capacitor as close as (See Datasheet)"

## LTC1515IS8-3/5#PBF
designator U?
Step-Up / Step-Down Switched Capacitor DC/DC Converter with Reset, 2 to 8 / 2.7 to 10 V Vin, 3 / 5 V Vout, 8-pin SOIC (S8-8), -40 to 85 degC, Pb-Free; Manufacturer: Linear Technology; PartNumber: LTC1515IS8-3/5#PBF; Frequency(kHz): 650; Ishutdown(uA): 1; Isupply(mA): 0.06; Max Iout(mA): 50; Vin Max(V): 8, 10; Vin Min(V): 2, 2.7; Voutput: 3V, 5V; PackageVersion: Rev. G, 03/2012; PackageReference: S8-8; PackageDescription: 8-Pin Plastic Small Outline (Narrow .150 Inch), Body 4.9 x 3.9 mm, Pitch 1.27 mm; Supplier 1: Digi-Key; Supplier Part Number 1: LTC1515IS8-3/5#PBF-ND; RoHS: TRUE; Mounting Technology: Surface Mount; ComponentLink1Description: Manufacturer URL; ComponentLink1URL: http://www.linear.com/; ComponentLink2Description: Datasheet; ComponentLink2URL: http://cds.linear.com/docs/en/datasheet/1515sf.pdf; ComponentLink3Description: Package Specification; ComponentLink3URL: http://cds.linear.com/docs/en/packaging/05081610_G_SO8.pdf
footprint LT-S8-8_N (SOIC, 8-Leads, Body 5x4mm, Pitch 1.27mm, IPC Medium Density)
footprint LT-S8-8_L (SOIC, 8-Leads, Body 5x4mm, Pitch 1.27mm, IPC High Density)
footprint LT-S8-8_M (SOIC, 8-Leads, Body 5x4mm, Pitch 1.27mm, IPC Low Density)
pins: 1 ~{SHDN} (in) "Shutdown Input. A logic low on the S\H\D\N\ pin puts the part into shutdown mode. A logic high (VS\H\D\N\ >= 1.6V) enables the charge pump regulator. At high VIN voltages, the S\H\D\N\ pin may still be controlled with 3V (See Datasheet)", 2 POR (oc) "Open-Drain Power-On Reset Output. This pin will pull low upon initial power-up, during shutdown or until VOUT has been within 6.5% of its regulated value for more than 200ms typ.", 3 5/~{3} (in) "Output Voltage Select. A logic high on the 5/3\ pin will force VOUT to regulate to 5V. A logic low will force VOUT to 3V (LTC1515-3/5) or 3.3V (LTC1515- 3.3/5). As with the S\H\D\N\ pin, the 5/3\ pin may be driven with 3V (See Datasheet)", 4 GND (power) "Ground. Should be tied to a ground plane for best performance.", 5 C1- "Charge Pump Flying Capacitor, Negative Terminal.", 6 C1+ "Charge Pump Flying Capacitor, Positive Terminal.", 7 VIN (power) "Charge Pump Input Voltage. May be between 2V and 10V. VIN should be bypassed with a >=10uF low ESR capacitor as close as possible to the pin for best performance.", 8 VOUT (power) "Regulated Output Voltage. The output voltage is internally set to either 3V/5V, 3.3V/5V or adjustable using an external resistor divider (LTC1515). VOUT should be bypassed with a >= 10uF low ESR capacitor as close as (See Datasheet)"

## LTC1515IS8-3/5#TR
designator U?
Step-Up / Step-Down Switched Capacitor DC/DC Converter with Reset, 2 to 8 / 2.7 to 10 V Vin, 3 / 5 V Vout, 8-pin SOIC (S8-8), -40 to 85 degC, Tape and Reel; Manufacturer: Linear Technology; PartNumber: LTC1515IS8-3/5#TR; Frequency(kHz): 650; Ishutdown(uA): 1; Isupply(mA): 0.06; Max Iout(mA): 50; Vin Max(V): 8, 10; Vin Min(V): 2, 2.7; Voutput: 3V, 5V; PackageVersion: Rev. G, 03/2012; PackageReference: S8-8; PackageDescription: 8-Pin Plastic Small Outline (Narrow .150 Inch), Body 4.9 x 3.9 mm, Pitch 1.27 mm; Supplier 1: Digi-Key; Supplier Part Number 1: LTC1515IS8-3/5#TR-ND; Packing: Tape and Reel; RoHS: FALSE; Mounting Technology: Surface Mount; ComponentLink1Description: Manufacturer URL; ComponentLink1URL: http://www.linear.com/; ComponentLink2Description: Datasheet; ComponentLink2URL: http://cds.linear.com/docs/en/datasheet/1515sf.pdf; ComponentLink3Description: Package Specification; ComponentLink3URL: http://cds.linear.com/docs/en/packaging/05081610_G_SO8.pdf
footprint LT-S8-8_N (SOIC, 8-Leads, Body 5x4mm, Pitch 1.27mm, IPC Medium Density)
footprint LT-S8-8_L (SOIC, 8-Leads, Body 5x4mm, Pitch 1.27mm, IPC High Density)
footprint LT-S8-8_M (SOIC, 8-Leads, Body 5x4mm, Pitch 1.27mm, IPC Low Density)
pins: 1 ~{SHDN} (in) "Shutdown Input. A logic low on the S\H\D\N\ pin puts the part into shutdown mode. A logic high (VS\H\D\N\ >= 1.6V) enables the charge pump regulator. At high VIN voltages, the S\H\D\N\ pin may still be controlled with 3V (See Datasheet)", 2 POR (oc) "Open-Drain Power-On Reset Output. This pin will pull low upon initial power-up, during shutdown or until VOUT has been within 6.5% of its regulated value for more than 200ms typ.", 3 5/~{3} (in) "Output Voltage Select. A logic high on the 5/3\ pin will force VOUT to regulate to 5V. A logic low will force VOUT to 3V (LTC1515-3/5) or 3.3V (LTC1515- 3.3/5). As with the S\H\D\N\ pin, the 5/3\ pin may be driven with 3V (See Datasheet)", 4 GND (power) "Ground. Should be tied to a ground plane for best performance.", 5 C1- "Charge Pump Flying Capacitor, Negative Terminal.", 6 C1+ "Charge Pump Flying Capacitor, Positive Terminal.", 7 VIN (power) "Charge Pump Input Voltage. May be between 2V and 10V. VIN should be bypassed with a >=10uF low ESR capacitor as close as possible to the pin for best performance.", 8 VOUT (power) "Regulated Output Voltage. The output voltage is internally set to either 3V/5V, 3.3V/5V or adjustable using an external resistor divider (LTC1515). VOUT should be bypassed with a >= 10uF low ESR capacitor as close as (See Datasheet)"

## LTC1515IS8-3/5#TRPBF
designator U?
Step-Up / Step-Down Switched Capacitor DC/DC Converter with Reset, 2 to 8 / 2.7 to 10 V Vin, 3 / 5 V Vout, 8-pin SOIC (S8-8), -40 to 85 degC, Pb-Free, Tape and Reel; Manufacturer: Linear Technology; PartNumber: LTC1515IS8-3/5#TRPBF; Frequency(kHz): 650; Ishutdown(uA): 1; Isupply(mA): 0.06; Max Iout(mA): 50; Vin Max(V): 8, 10; Vin Min(V): 2, 2.7; Voutput: 3V, 5V; PackageVersion: Rev. G, 03/2012; PackageReference: S8-8; PackageDescription: 8-Pin Plastic Small Outline (Narrow .150 Inch), Body 4.9 x 3.9 mm, Pitch 1.27 mm; Supplier 1: Digi-Key; Supplier Part Number 1: LTC1515IS8-3/5#TRPBF-ND; Packing: Tape and Reel; RoHS: TRUE; Mounting Technology: Surface Mount; ComponentLink1Description: Manufacturer URL; ComponentLink1URL: http://www.linear.com/; ComponentLink2Description: Datasheet; ComponentLink2URL: http://cds.linear.com/docs/en/datasheet/1515sf.pdf; ComponentLink3Description: Package Specification; ComponentLink3URL: http://cds.linear.com/docs/en/packaging/05081610_G_SO8.pdf
footprint LT-S8-8_N (SOIC, 8-Leads, Body 5x4mm, Pitch 1.27mm, IPC Medium Density)
footprint LT-S8-8_L (SOIC, 8-Leads, Body 5x4mm, Pitch 1.27mm, IPC High Density)
footprint LT-S8-8_M (SOIC, 8-Leads, Body 5x4mm, Pitch 1.27mm, IPC Low Density)
pins: 1 ~{SHDN} (in) "Shutdown Input. A logic low on the S\H\D\N\ pin puts the part into shutdown mode. A logic high (VS\H\D\N\ >= 1.6V) enables the charge pump regulator. At high VIN voltages, the S\H\D\N\ pin may still be controlled with 3V (See Datasheet)", 2 POR (oc) "Open-Drain Power-On Reset Output. This pin will pull low upon initial power-up, during shutdown or until VOUT has been within 6.5% of its regulated value for more than 200ms typ.", 3 5/~{3} (in) "Output Voltage Select. A logic high on the 5/3\ pin will force VOUT to regulate to 5V. A logic low will force VOUT to 3V (LTC1515-3/5) or 3.3V (LTC1515- 3.3/5). As with the S\H\D\N\ pin, the 5/3\ pin may be driven with 3V (See Datasheet)", 4 GND (power) "Ground. Should be tied to a ground plane for best performance.", 5 C1- "Charge Pump Flying Capacitor, Negative Terminal.", 6 C1+ "Charge Pump Flying Capacitor, Positive Terminal.", 7 VIN (power) "Charge Pump Input Voltage. May be between 2V and 10V. VIN should be bypassed with a >=10uF low ESR capacitor as close as possible to the pin for best performance.", 8 VOUT (power) "Regulated Output Voltage. The output voltage is internally set to either 3V/5V, 3.3V/5V or adjustable using an external resistor divider (LTC1515). VOUT should be bypassed with a >= 10uF low ESR capacitor as close as (See Datasheet)"

## LTC1516CS8
designator U?
Micropower, Regulated Charge Pump DC/DC Converter, 2 to 5 V Vin, 5 V Vout, 8-pin SOIC (S8-8), 0 to 70 degC; Manufacturer: Linear Technology; PartNumber: LTC1516CS8; Frequency(kHz): 600; Isupply(mA): 0.012; Max Iout(mA): 50; Vin Max(V): 5; Vin Min(V): 2; Voutput: 5V; PackageVersion: Rev. G, 03/2012; PackageReference: S8-8; PackageDescription: 8-Pin Plastic Small Outline (Narrow .150 Inch), Body 4.9 x 3.9 mm, Pitch 1.27 mm; RoHS: FALSE; Mounting Technology: Surface Mount; ComponentLink1Description: Manufacturer URL; ComponentLink1URL: http://www.linear.com/; ComponentLink2Description: Datasheet; ComponentLink2URL: http://cds.linear.com/docs/en/datasheet/1516f.pdf; ComponentLink3Description: Package Specification; ComponentLink3URL: http://cds.linear.com/docs/en/packaging/05081610_G_SO8.pdf
footprint LT-S8-8_N (SOIC, 8-Leads, Body 5x4mm, Pitch 1.27mm, IPC Medium Density)
footprint LT-S8-8_L (SOIC, 8-Leads, Body 5x4mm, Pitch 1.27mm, IPC High Density)
footprint LT-S8-8_M (SOIC, 8-Leads, Body 5x4mm, Pitch 1.27mm, IPC Low Density)
pins: 1 C1+ "Flying Capacitor 1, Positive Terminal.", 2 VIN (power) "Input Supply Voltage.", 3 VOUT (power) "5V Output Voltage (VOUT = 0V in Shutdown).", 4 C2+ "Flying Capacitor 2, Positive Terminal.", 5 C2- "Flying Capacitor 2, Negative Terminal.", 6 GND (power) "Ground.", 7 SHDN (in) "Active High CMOS Logic-Level Shutdown Input.", 8 C1- "Flying Capacitor 1, Negative Terminal."

## LTC1516CS8#PBF
designator U?
Micropower, Regulated Charge Pump DC/DC Converter, 2 to 5 V Vin, 5 V Vout, 8-pin SOIC (S8-8), 0 to 70 degC, Pb-Free; Manufacturer: Linear Technology; PartNumber: LTC1516CS8#PBF; Frequency(kHz): 600; Isupply(mA): 0.012; Max Iout(mA): 50; Vin Max(V): 5; Vin Min(V): 2; Voutput: 5V; PackageVersion: Rev. G, 03/2012; PackageReference: S8-8; PackageDescription: 8-Pin Plastic Small Outline (Narrow .150 Inch), Body 4.9 x 3.9 mm, Pitch 1.27 mm; Supplier 1: Digi-Key; Supplier Part Number 1: LTC1516CS8#PBF-ND; Supplier 2: Farnell; Supplier Part Number 2: 1273878; Supplier 3: Newark; Supplier Part Number 3: 56M1737; RoHS: TRUE; Mounting Technology: Surface Mount; ComponentLink1Description: Manufacturer URL; ComponentLink1URL: http://www.linear.com/; ComponentLink2Description: Datasheet; ComponentLink2URL: http://cds.linear.com/docs/en/datasheet/1516f.pdf; ComponentLink3Description: Package Specification; ComponentLink3URL: http://cds.linear.com/docs/en/packaging/05081610_G_SO8.pdf
footprint LT-S8-8_N (SOIC, 8-Leads, Body 5x4mm, Pitch 1.27mm, IPC Medium Density)
footprint LT-S8-8_L (SOIC, 8-Leads, Body 5x4mm, Pitch 1.27mm, IPC High Density)
footprint LT-S8-8_M (SOIC, 8-Leads, Body 5x4mm, Pitch 1.27mm, IPC Low Density)
pins: 1 C1+ "Flying Capacitor 1, Positive Terminal.", 2 VIN (power) "Input Supply Voltage.", 3 VOUT (power) "5V Output Voltage (VOUT = 0V in Shutdown).", 4 C2+ "Flying Capacitor 2, Positive Terminal.", 5 C2- "Flying Capacitor 2, Negative Terminal.", 6 GND (power) "Ground.", 7 SHDN (in) "Active High CMOS Logic-Level Shutdown Input.", 8 C1- "Flying Capacitor 1, Negative Terminal."

## LTC1516CS8#TR
designator U?
Micropower, Regulated Charge Pump DC/DC Converter, 2 to 5 V Vin, 5 V Vout, 8-pin SOIC (S8-8), 0 to 70 degC, Tape and Reel; Manufacturer: Linear Technology; PartNumber: LTC1516CS8#TR; Frequency(kHz): 600; Isupply(mA): 0.012; Max Iout(mA): 50; Vin Max(V): 5; Vin Min(V): 2; Voutput: 5V; PackageVersion: Rev. G, 03/2012; PackageReference: S8-8; PackageDescription: 8-Pin Plastic Small Outline (Narrow .150 Inch), Body 4.9 x 3.9 mm, Pitch 1.27 mm; Supplier 1: Digi-Key; Supplier Part Number 1: LTC1516CS8#TR-ND; Packing: Tape and Reel; RoHS: FALSE; Mounting Technology: Surface Mount; ComponentLink1Description: Manufacturer URL; ComponentLink1URL: http://www.linear.com/; ComponentLink2Description: Datasheet; ComponentLink2URL: http://cds.linear.com/docs/en/datasheet/1516f.pdf; ComponentLink3Description: Package Specification; ComponentLink3URL: http://cds.linear.com/docs/en/packaging/05081610_G_SO8.pdf
footprint LT-S8-8_N (SOIC, 8-Leads, Body 5x4mm, Pitch 1.27mm, IPC Medium Density)
footprint LT-S8-8_L (SOIC, 8-Leads, Body 5x4mm, Pitch 1.27mm, IPC High Density)
footprint LT-S8-8_M (SOIC, 8-Leads, Body 5x4mm, Pitch 1.27mm, IPC Low Density)
pins: 1 C1+ "Flying Capacitor 1, Positive Terminal.", 2 VIN (power) "Input Supply Voltage.", 3 VOUT (power) "5V Output Voltage (VOUT = 0V in Shutdown).", 4 C2+ "Flying Capacitor 2, Positive Terminal.", 5 C2- "Flying Capacitor 2, Negative Terminal.", 6 GND (power) "Ground.", 7 SHDN (in) "Active High CMOS Logic-Level Shutdown Input.", 8 C1- "Flying Capacitor 1, Negative Terminal."

## LTC1516CS8#TRPBF
designator U?
Micropower, Regulated Charge Pump DC/DC Converter, 2 to 5 V Vin, 5 V Vout, 8-pin SOIC (S8-8), 0 to 70 degC, Pb-Free, Tape and Reel; Manufacturer: Linear Technology; PartNumber: LTC1516CS8#TRPBF; Frequency(kHz): 600; Isupply(mA): 0.012; Max Iout(mA): 50; Vin Max(V): 5; Vin Min(V): 2; Voutput: 5V; PackageVersion: Rev. G, 03/2012; PackageReference: S8-8; PackageDescription: 8-Pin Plastic Small Outline (Narrow .150 Inch), Body 4.9 x 3.9 mm, Pitch 1.27 mm; Supplier 1: Digi-Key; Supplier Part Number 1: LTC1516CS8#TRPBF-ND; Packing: Tape and Reel; RoHS: TRUE; Mounting Technology: Surface Mount; ComponentLink1Description: Manufacturer URL; ComponentLink1URL: http://www.linear.com/; ComponentLink2Description: Datasheet; ComponentLink2URL: http://cds.linear.com/docs/en/datasheet/1516f.pdf; ComponentLink3Description: Package Specification; ComponentLink3URL: http://cds.linear.com/docs/en/packaging/05081610_G_SO8.pdf
footprint LT-S8-8_N (SOIC, 8-Leads, Body 5x4mm, Pitch 1.27mm, IPC Medium Density)
footprint LT-S8-8_L (SOIC, 8-Leads, Body 5x4mm, Pitch 1.27mm, IPC High Density)
footprint LT-S8-8_M (SOIC, 8-Leads, Body 5x4mm, Pitch 1.27mm, IPC Low Density)
pins: 1 C1+ "Flying Capacitor 1, Positive Terminal.", 2 VIN (power) "Input Supply Voltage.", 3 VOUT (power) "5V Output Voltage (VOUT = 0V in Shutdown).", 4 C2+ "Flying Capacitor 2, Positive Terminal.", 5 C2- "Flying Capacitor 2, Negative Terminal.", 6 GND (power) "Ground.", 7 SHDN (in) "Active High CMOS Logic-Level Shutdown Input.", 8 C1- "Flying Capacitor 1, Negative Terminal."

## LTC1516IS8
designator U?
Micropower, Regulated Charge Pump DC/DC Converter, 2 to 5 V Vin, 5 V Vout, 8-pin SOIC (S8-8), -40 to 85 degC; Manufacturer: Linear Technology; PartNumber: LTC1516IS8; Frequency(kHz): 600; Isupply(mA): 0.012; Max Iout(mA): 50; Vin Max(V): 5; Vin Min(V): 2; Voutput: 5V; PackageVersion: Rev. G, 03/2012; PackageReference: S8-8; PackageDescription: 8-Pin Plastic Small Outline (Narrow .150 Inch), Body 4.9 x 3.9 mm, Pitch 1.27 mm; Supplier 1: Digi-Key; Supplier Part Number 1: LTC1516IS8-ND; RoHS: FALSE; Mounting Technology: Surface Mount; ComponentLink1Description: Manufacturer URL; ComponentLink1URL: http://www.linear.com/; ComponentLink2Description: Datasheet; ComponentLink2URL: http://cds.linear.com/docs/en/datasheet/1516f.pdf; ComponentLink3Description: Package Specification; ComponentLink3URL: http://cds.linear.com/docs/en/packaging/05081610_G_SO8.pdf
footprint LT-S8-8_N (SOIC, 8-Leads, Body 5x4mm, Pitch 1.27mm, IPC Medium Density)
footprint LT-S8-8_L (SOIC, 8-Leads, Body 5x4mm, Pitch 1.27mm, IPC High Density)
footprint LT-S8-8_M (SOIC, 8-Leads, Body 5x4mm, Pitch 1.27mm, IPC Low Density)
pins: 1 C1+ "Flying Capacitor 1, Positive Terminal.", 2 VIN (power) "Input Supply Voltage.", 3 VOUT (power) "5V Output Voltage (VOUT = 0V in Shutdown).", 4 C2+ "Flying Capacitor 2, Positive Terminal.", 5 C2- "Flying Capacitor 2, Negative Terminal.", 6 GND (power) "Ground.", 7 SHDN (in) "Active High CMOS Logic-Level Shutdown Input.", 8 C1- "Flying Capacitor 1, Negative Terminal."